# Altium integrated library Silicon Labs Clocks and Oscillators.IntLib: 678 symbols (part 28 of 45)
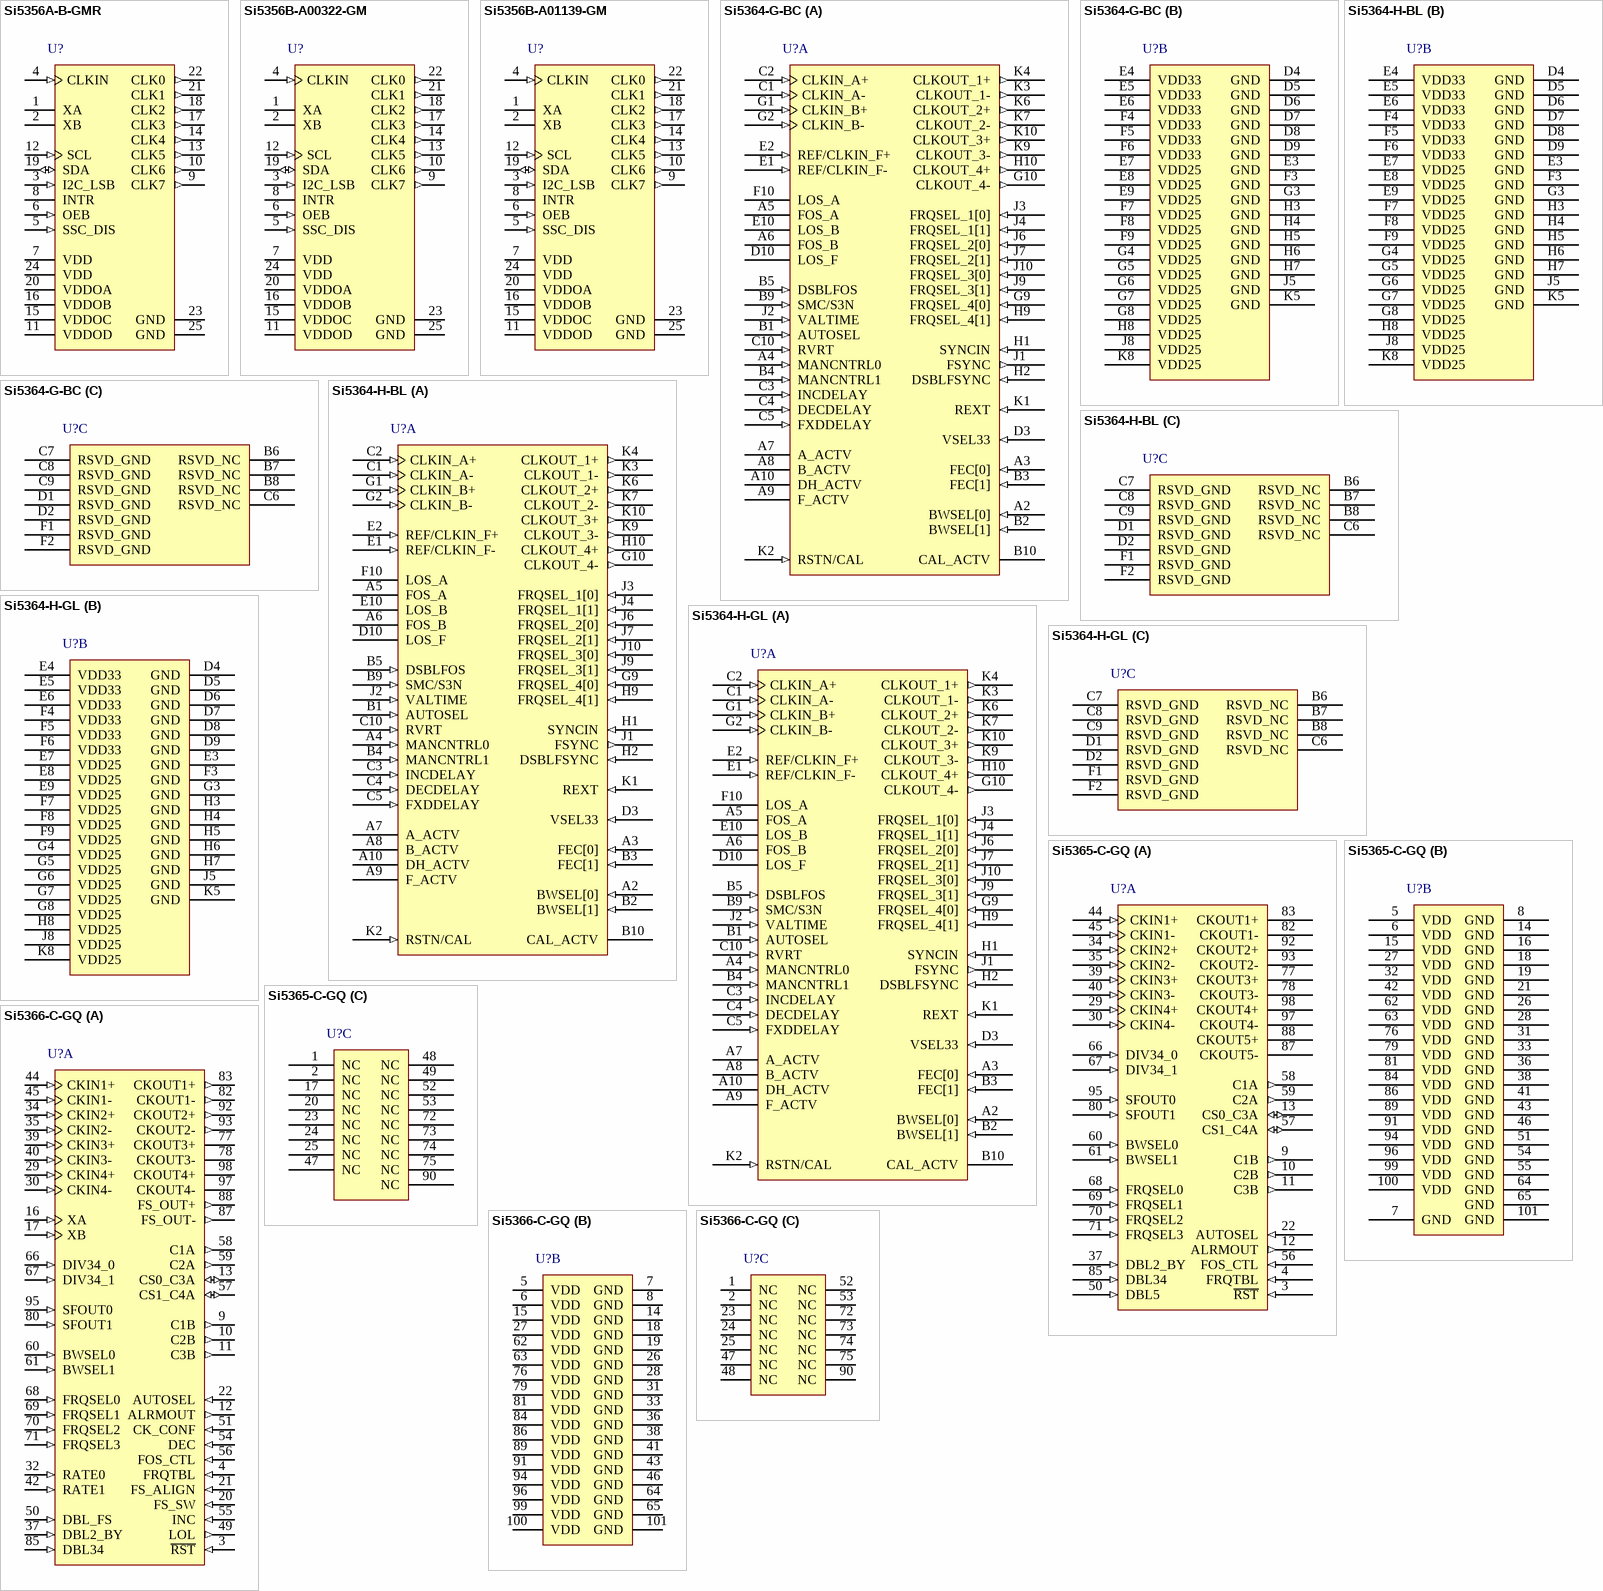
[diagram p71: symbols Si5356A-B-GMR to Si5366-C-GQ]

## Si5365-C-GQ
designator U?
Pin-Programmable Precision Clock Multiplier, 1.8 / 2.5 / 3.3 V, 19.44 to 1050 MHz Output, -40 to 85 degC, 100-pin QFP; Manufacturer: Silicon Labs; PartNumber: Si5365-C-GQ; Output Format: LVPECL; LVDS; CML; LVCMOS; Reference Inputs: 4; VDD: 1.8 V; 2.5 V; 3.3 V; Sub-Family: Clock Generators; DatasheetVersion: Rev. 0.5; PackageReference: TQFP-100; PackageDescription: 100-Pin Thin Quad Flat Package, Body 14 x 14 mm, Pitch 0.5 mm; Supplier 1: Digi-Key; Supplier Part Number 1: SI5365-C-GQ-ND; Supplier 2: Mouser; Supplier Part Number 2: 634-SI5365-C-GQ; Output Frequency (MHz): 19.44 to 1050; Mounting Technology: Surface Mount; Code_JEDEC: MS-026; Code_IPC: J-STD-020C; ComponentLink1Description: Manufacturer URL; ComponentLink1URL: http://www.silabs.com/; ComponentLink2Description: Datasheet; ComponentLink2URL: https://www.silabs.com/Support%20Documents/TechnicalDocs/Si5365.pdf; ComponentLink3Description: Package Specification; ComponentLink3URL: https://www.silabs.com/Support%20Documents/TechnicalDocs/Si5365.pdf
footprint SLAB-TQFP-100-EP_N (QFP, 100-Leads, Body 14x14mm, Pitch 14mm, Thermal Pad 4x4mm, IPC Medium Density)
footprint SLAB-TQFP-100-EP_L (QFP, 100-Leads, Body 14x14mm, Pitch 0.5mm, Thermal Pad 4x4mm, IPC High Density)
footprint SLAB-TQFP-100-EP_M (QFP, 100-Leads, Body 14x14mm, Pitch 0.5mm, Thermal Pad 4x4mm, IPC Low Density)
part A pins: 3 ~{RST} (in) "External Reset.", 4 FRQTBL (in) "Frequency Table Select", 9 C1B (out) "CKIN1 Invalid Indicator", 10 C2B (out) "CKIN2 Invalid Indicator", 11 C3B (out) "CKIN3 Invalid Indicator", 12 ALRMOUT (out) "Alarm Output Indicator", 13 CS0_C3A (io) "Input Clock Select/CKINn Active Clock Indicator", 22 AUTOSEL (in) "Manual/Automatic Clock Selection", 29 CKIN4+ (in) "Clock Input 4.", 30 CKIN4- (in) "Clock Input 4.", 34 CKIN2+ (in) "Clock Input 2.", 35 CKIN2- (in) "Clock Input 2.", 37 DBL2_BY (in) "CKOUT2 Disable/PLL Bypass Mode Control.", 39 CKIN3+ (in) "Clock Input 3.", 40 CKIN3- (in) "Clock Input 3.", 44 CKIN1+ (in) "Clock Input 1.", 45 CKIN1- (in) "Clock Input 1.", 50 DBL5 (in) "CKOUT5 Disable", 56 FOS_CTL (in) "Frequency Offset Control.", 57 CS1_C4A (io) "Input Clock Select/CKINn Active Clock Indicator", 58 C1A (out) "CKIN1 Active Clock Indicator.", 59 C2A (out) "CKIN2 Active Clock Indicator.", 60 BWSEL0 (in) "Bandwidth Select.", 61 BWSEL1 (in) "Bandwidth Select.", 66 DIV34_0 (in) "CKOUT3 and CKOUT4 Divider Control.", 67 DIV34_1 (in) "CKOUT3 and CKOUT4 Divider Control.", 68 FRQSEL0 (in) "Multiplier Select.", 69 FRQSEL1 (in) "Multiplier Select.", 70 FRQSEL2 (in) "Multiplier Select.", 71 FRQSEL3 (in) "Multiplier Select.", 77 CKOUT3+ (hiz) "Clock Output 3.", 78 CKOUT3- (hiz) "Clock Output 3.", 80 SFOUT1 (in) "Signal Format Select.", 82 CKOUT1- (hiz) "Clock Output 1.", 83 CKOUT1+ (hiz) "Clock Output 1.", 85 DBL34 (in) "Output 3 and 4 Disable", 87 CKOUT5- (hiz) "Clock Output 5.", 88 CKOUT5+ (hiz) "Clock Output 5.", 92 CKOUT2+ (hiz) "Clock Output 2.", 93 CKOUT2- (hiz) "Clock Output 2.", 95 SFOUT0 (in) "Signal Format Select.", 97 CKOUT4- (hiz) "Clock Output 4.", 98 CKOUT4+ (hiz) "Clock Output 4."
part B pins: 5 VDD (power), 6 VDD (power), 7 GND (power) "Ground.", 8 GND (power) "Ground.", 14 GND (power) "Ground.", 15 VDD (power), 16 GND (power) "Ground.", 18 GND (power) "Ground.", 19 GND (power) "Ground.", 21 GND (power) "Ground.", 26 GND (power) "Ground.", 27 VDD (power), 28 GND (power) "Ground.", 31 GND (power) "Ground.", 32 VDD (power), 33 GND (power) "Ground.", 36 GND (power) "Ground.", 38 GND (power) "Ground.", 41 GND (power) "Ground.", 42 VDD (power), 43 GND (power) "Ground.", 46 GND (power) "Ground.", 51 GND (power) "Ground.", 54 GND (power) "Ground.", 55 GND (power) "Ground.", 62 VDD (power), 63 VDD (power), 64 GND (power) "Ground.", 65 GND (power) "Ground.", 76 VDD (power), 79 VDD (power), 81 VDD (power), 84 VDD (power), 86 VDD (power), 89 VDD (power), 91 VDD (power), 94 VDD (power), 96 VDD (power), 99 VDD (power), 100 VDD (power), 101 GND (power) "Ground Pad."
part C pins: 1 NC "No Connect", 2 NC "No Connect", 17 NC "No Connect", 20 NC "No Connect", 23 NC "No Connect", 24 NC "No Connect", 25 NC "No Connect", 47 NC "No Connect", 48 NC "No Connect", 49 NC "No Connect", 52 NC "No Connect", 53 NC "No Connect", 72 NC "No Connect", 73 NC "No Connect", 74 NC "No Connect", 75 NC "No Connect", 90 NC "No Connect"

## Si5366-C-GQ
designator U?
Precision Clock Multiplier / Jitter Attenuator, 1.8 / 2.5 / 3.3 V, 19.44 to 1050 MHz Output, -40 to 85 degC, 100-pin QFP; Manufacturer: Silicon Labs; PartNumber: Si5366-C-GQ; Output Format: LVPECL; LVDS; CML; LVCMOS; Reference Inputs: 4; VDD: 1.8 V; 2.5 V; 3.3 V; Sub-Family: Clock Generators; DatasheetVersion: Rev. 1.0; PackageReference: TQFP-100; PackageDescription: 100-Pin Thin Quad Flat Package, Body 14 x 14 mm, Pitch 0.5 mm; Supplier 1: Digi-Key; Supplier Part Number 1: SI5366-C-GQ-ND; Supplier 2: Mouser; Supplier Part Number 2: 634-SI5366-C-GQ; Output Frequency (MHz): 19.44 to 1050; Mounting Technology: Surface Mount; Code_JEDEC: MS-026; Code_IPC: J-STD-020C; ComponentLink1Description: Manufacturer URL; ComponentLink1URL: http://www.silabs.com/; ComponentLink2Description: Datasheet; ComponentLink2URL: http://www.silabs.com/Support%20Documents/TechnicalDocs/Si5366.pdf; ComponentLink3Description: Package Specification; ComponentLink3URL: https://www.silabs.com/Support%20Documents/TechnicalDocs/Si5365.pdf
footprint SLAB-TQFP-100-EP_N (QFP, 100-Leads, Body 14x14mm, Pitch 14mm, Thermal Pad 4x4mm, IPC Medium Density)
footprint SLAB-TQFP-100-EP_L (QFP, 100-Leads, Body 14x14mm, Pitch 0.5mm, Thermal Pad 4x4mm, IPC High Density)
footprint SLAB-TQFP-100-EP_M (QFP, 100-Leads, Body 14x14mm, Pitch 0.5mm, Thermal Pad 4x4mm, IPC Low Density)
part A pins: 3 ~{RST} (in) "External Reset.", 4 FRQTBL (in) "Frequency Table Select.", 9 C1B (out) "CKIN1 Invalid Indicator", 10 C2B (out) "CKIN2 Invalid Indicator", 11 C3B (out) "CKIN3 Invalid Indicator", 12 ALRMOUT (out) "Alarm Output Indicator", 13 CS0_C3A (io) "Input Clock Select/CKINn Active Clock Indicator", 16 XA (in) "External Crystal or Reference Clock", 17 XB (in) "External Crystal or Reference Clock", 20 FS_SW (in) "FSYNC Inputs to Clock Selection Enable", 21 FS_ALIGN (in) "FSYNC Alignment Control.", 22 AUTOSEL (in) "Manual/Automatic Clock Selection", 29 CKIN4+ (in) "Clock Input 4.", 30 CKIN4- (in) "Clock Input 4.", 32 RATE0 (in) "External Crystal or Reference Clock Rate.", 34 CKIN2+ (in) "Clock Input 2.", 35 CKIN2- (in) "Clock Input 2.", 37 DBL2_BY (in) "CKOUT2 Disable/PLL Bypass Mode Control", 39 CKIN3+ (in) "Clock Input 3.", 40 CKIN3- (in) "Clock Input 3.", 42 RATE1 (in) "External Crystal or Reference Clock Rate.", 44 CKIN1+ (in) "Clock Input 1.", 45 CKIN1- (in) "Clock Input 1.", 49 LOL (out) "PLL Loss of Lock Indicator.", 50 DBL_FS (in) "FS_OUT Disable", 51 CK_CONF (in) "Input Clock Configuration Control", 54 DEC (in) "Coarse Skew Decrement.", 55 INC (in) "Coarse Skew Increment.", 56 FOS_CTL (in) "Frequency Offset Control", 57 CS1_C4A (io) "Input Clock Select/CKINn Active Clock Indicator", 58 C1A (out) "CKIN1 Active Clock Indicator", 59 C2A (out) "CKIN2 Active Clock Indicator.", 60 BWSEL0 (in) "Bandwidth Select.", 61 BWSEL1 (in) "Bandwidth Select.", 66 DIV34_0 (in) "CKOUT3 and CKOUT4 Divider Control.", 67 DIV34_1 (in) "CKOUT3 and CKOUT4 Divider Control.", 68 FRQSEL0 (in) "Multiplier Select", 69 FRQSEL1 (in) "Multiplier Select", 70 FRQSEL2 (in) "Multiplier Select", 71 FRQSEL3 (in) "Multiplier Select", 77 CKOUT3+ (hiz) "Clock Output 3.", 78 CKOUT3- (hiz) "Clock Output 3.", 80 SFOUT1 (in) "Signal Format Select", 82 CKOUT1- (out) "Clock Output 1.", 83 CKOUT1+ (out) "Clock Output 1.", 85 DBL34 (in) "Output 3 and 4 Disable", 87 FS_OUT- (out) "Frame Sync Output.", 88 FS_OUT+ (out) "Frame Sync Output.", 92 CKOUT2+ (out) "Clock Output 2.", 93 CKOUT2- (out) "Clock Output 2.", 95 SFOUT0 (in) "Signal Format Select", 97 CKOUT4- (hiz) "Clock Output 4.", 98 CKOUT4+ (hiz) "Clock Output 4."
part B pins: 5 VDD (power) "VDD.", 6 VDD (power) "VDD.", 7 GND (power) "Ground.", 8 GND (power) "Ground.", 14 GND (power) "Ground.", 15 VDD (power) "VDD.", 18 GND (power) "Ground.", 19 GND (power) "Ground.", 26 GND (power) "Ground.", 27 VDD (power) "VDD.", 28 GND (power) "Ground.", 31 GND (power) "Ground.", 33 GND (power) "Ground.", 36 GND (power) "Ground.", 38 GND (power) "Ground.", 41 GND (power) "Ground.", 43 GND (power) "Ground.", 46 GND (power) "Ground.", 62 VDD (power) "VDD.", 63 VDD (power) "VDD.", 64 GND (power) "Ground.", 65 GND (power) "Ground.", 76 VDD (power) "VDD.", 79 VDD (power) "VDD.", 81 VDD (power) "VDD.", 84 VDD (power) "VDD.", 86 VDD (power) "VDD.", 89 VDD (power) "VDD.", 91 VDD (power) "VDD.", 94 VDD (power) "VDD.", 96 VDD (power) "VDD.", 99 VDD (power) "VDD.", 100 VDD (power) "VDD.", 101 GND (power) "Ground Pad"
part C pins: 1 NC "No Connect.", 2 NC "No Connect.", 23 NC "No Connect.", 24 NC "No Connect.", 25 NC "No Connect.", 47 NC "No Connect.", 48 NC "No Connect.", 52 NC "No Connect.", 53 NC "No Connect.", 72 NC "No Connect.", 73 NC "No Connect.", 74 NC "No Connect.", 75 NC "No Connect.", 90 NC "No Connect."

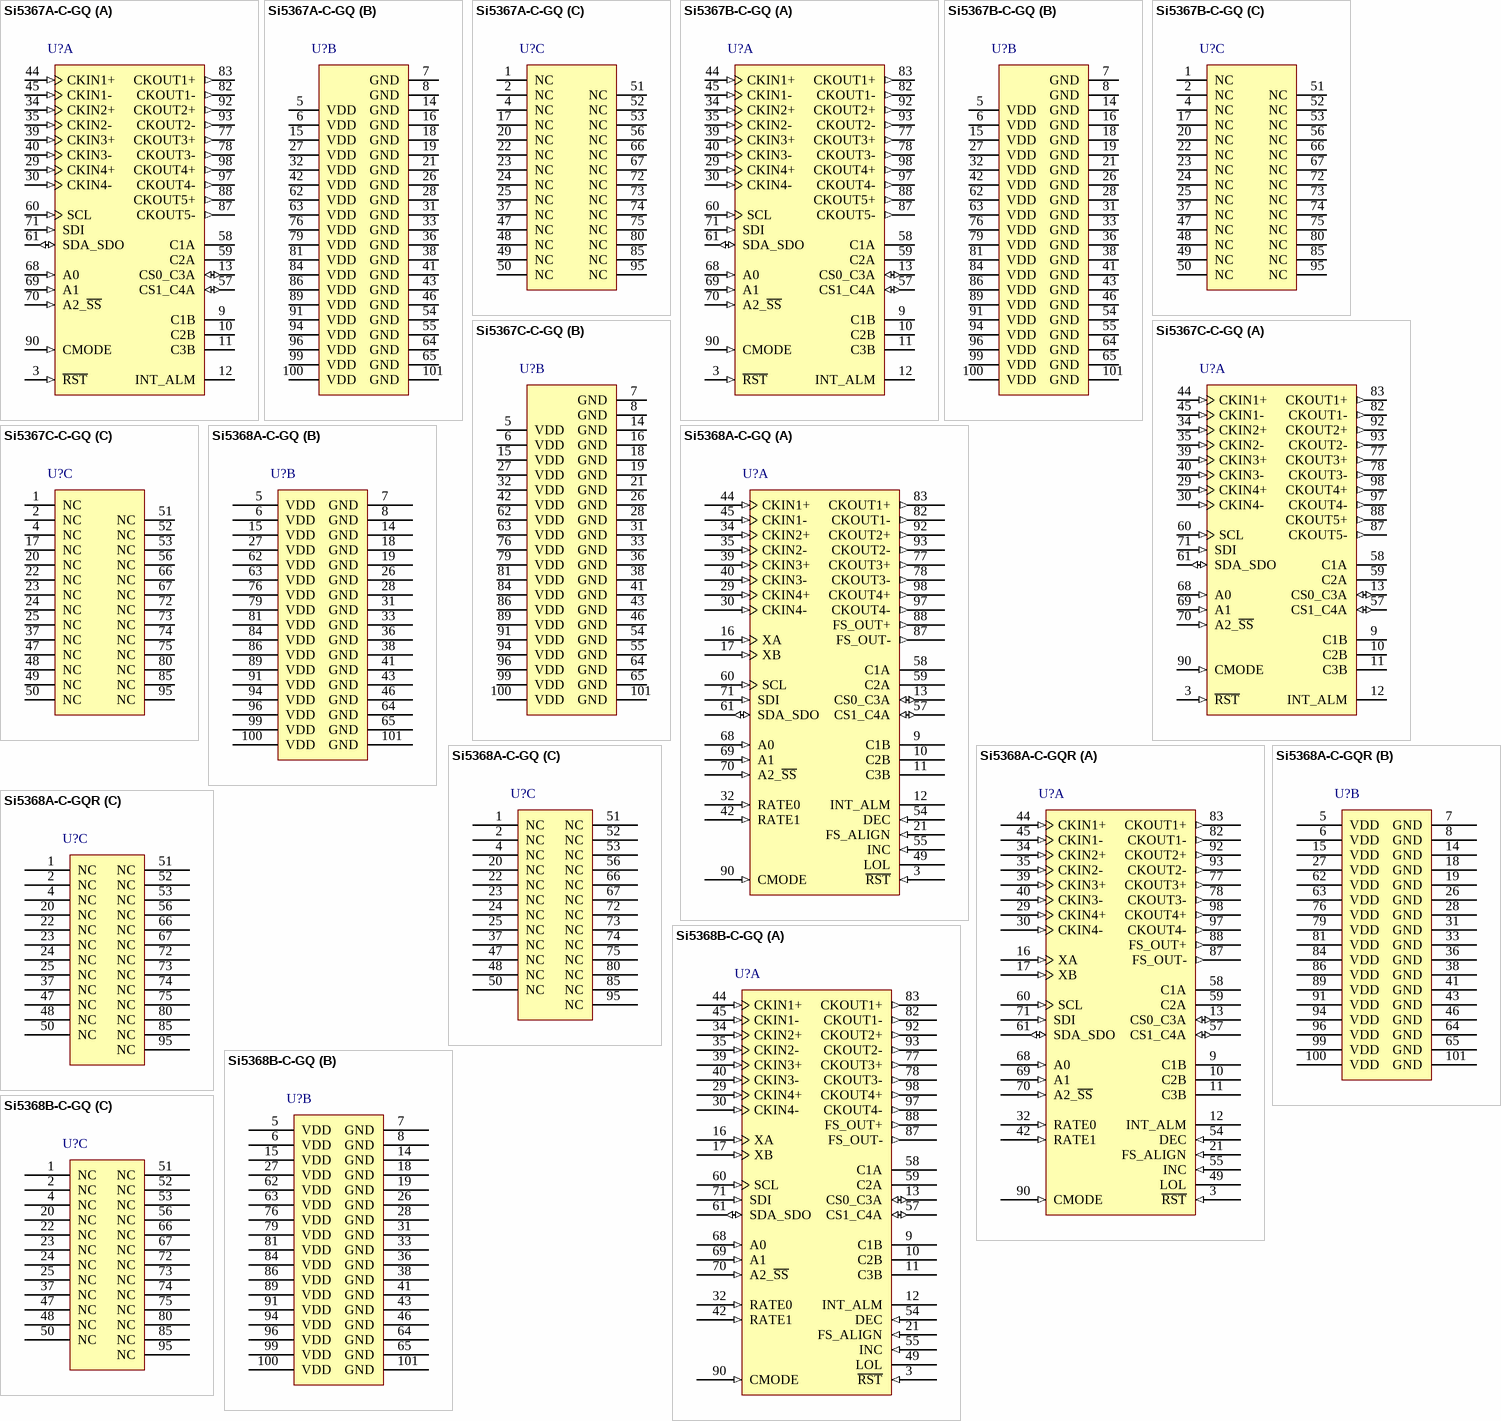
[diagram p28: symbols Si5367A-C-GQ to Si5368B-C-GQ]

## Si5367A-C-GQ
designator U?
uP-Programmable Precision Clock Multiplier, 1.8 / 2.5 / 3.3 V, 1400 MHz Max Output, -40 to 85 degC, 100-pin QFP; Manufacturer: Silicon Labs; PartNumber: Si5367A-C-GQ; Output Format: LVPECL; LVDS; CML; LVCMOS; Output Frequency (MHz): 0.002 to 945; 970 to 1134; 1213 to 1400; Reference Inputs: 4; VDD: 1.8 V; 2.5 V; 3.3 V; Sub-Family: Clock Generators; DatasheetVersion: Rev. 0.5; PackageReference: TQFP-100; PackageDescription: 100-Pin Thin Quad Flat Package, Body 14 x 14 mm, Pitch 0.5 mm; Supplier 1: Digi-Key; Supplier Part Number 1: SI5367A-C-GQ-ND; Supplier 2: Mouser; Supplier Part Number 2: 634-SI5367A-C-GQ; Mounting Technology: Surface Mount; Code_JEDEC: MS-026; Code_IPC: J-STD-020C; ComponentLink1Description: Manufacturer URL; ComponentLink1URL: http://www.silabs.com/; ComponentLink2Description: Datasheet; ComponentLink2URL: http://www.silabs.com/Support%20Documents/TechnicalDocs/Si5367.pdf; ComponentLink3Description: Package Specification; ComponentLink3URL: https://www.silabs.com/Support%20Documents/TechnicalDocs/Si5365.pdf
footprint SLAB-TQFP-100-EP_N (QFP, 100-Leads, Body 14x14mm, Pitch 14mm, Thermal Pad 4x4mm, IPC Medium Density)
footprint SLAB-TQFP-100-EP_L (QFP, 100-Leads, Body 14x14mm, Pitch 0.5mm, Thermal Pad 4x4mm, IPC High Density)
footprint SLAB-TQFP-100-EP_M (QFP, 100-Leads, Body 14x14mm, Pitch 0.5mm, Thermal Pad 4x4mm, IPC Low Density)
part A pins: 3 ~{RST} (in) "External Reset", 9 C1B (hiz) "CKIN1 Invalid Indicator", 10 C2B (hiz) "CKIN2 Invalid Indicator.", 11 C3B (hiz) "CKIN3 Invalid Indicator.", 12 INT_ALM (hiz) "Interrupt/Alarm Output Indicator", 13 CS0_C3A (io) "Input Clock Select/CKINn Active Clock Indicator", 29 CKIN4+ (in) "Clock Input 4.", 30 CKIN4- (in) "Clock Input 4.", 34 CKIN2+ (in) "Clock Input 2.", 35 CKIN2- (in) "Clock Input 2.", 39 CKIN3+ (in) "Clock Input 3.", 40 CKIN3- (in) "Clock Input 3.", 44 CKIN1+ (in) "Clock Input 1.", 45 CKIN1- (in) "Clock Input 1.", 57 CS1_C4A (io) "Input Clock Select/CKINn Active Clock Indicator", 58 C1A (hiz) "CKIN1 Active Clock Indicator", 59 C2A (hiz) "CKIN2 Active Clock Indicator.", 60 SCL (in) "Serial Clock.", 61 SDA_SDO (io) "Serial Data.", 68 A0 (in) "Serial Port Address.", 69 A1 (in) "Serial Port Address.", 70 A2_~{SS} (in) "Serial Port Address/S\l\a\v\e\ \S\e\l\e\c\t\", 71 SDI (in) "Serial Data In.", 77 CKOUT3+ (out) "Clock Output 3.", 78 CKOUT3- (out) "Clock Output 3.", 82 CKOUT1- (out) "Clock Output 1.", 83 CKOUT1+ (out) "Clock Output 1.", 87 CKOUT5- (out) "Clock Output 5.", 88 CKOUT5+ (out) "Clock Output 5.", 90 CMODE (in) "Control Mode", 92 CKOUT2+ (out) "Clock Output 2.", 93 CKOUT2- (out) "Clock Output 2.", 97 CKOUT4- (out) "Clock Output 4.", 98 CKOUT4+ (out) "Clock Output 4."
part B pins: 5 VDD (power), 6 VDD (power), 7 GND (power) "Ground.", 8 GND (power) "Ground.", 14 GND (power) "Ground.", 15 VDD (power), 16 GND (power) "Ground.", 18 GND (power) "Ground.", 19 GND (power) "Ground.", 21 GND (power) "Ground.", 26 GND (power) "Ground.", 27 VDD (power), 28 GND (power) "Ground.", 31 GND (power) "Ground.", 32 VDD (power), 33 GND (power) "Ground.", 36 GND (power) "Ground.", 38 GND (power) "Ground.", 41 GND (power) "Ground.", 42 VDD (power), 43 GND (power) "Ground.", 46 GND (power) "Ground.", 54 GND (power) "Ground.", 55 GND (power) "Ground.", 62 VDD (power), 63 VDD (power), 64 GND (power) "Ground.", 65 GND (power) "Ground.", 76 VDD (power), 79 VDD (power) "VDD.", 81 VDD (power) "VDD.", 84 VDD (power) "VDD.", 86 VDD (power), 89 VDD (power), 91 VDD (power), 94 VDD (power) "VDD.", 96 VDD (power) "VDD.", 99 VDD (power) "VDD.", 100 VDD (power) "VDD.", 101 GND (power) "Ground Pad"
part C pins: 1 NC "No Connect", 2 NC "No Connect", 4 NC "No Connect", 17 NC "No Connect", 20 NC "No Connect", 22 NC "No Connect.", 23 NC "No Connect.", 24 NC "No Connect.", 25 NC "No Connect.", 37 NC "No Connect.", 47 NC "No Connect.", 48 NC "No Connect.", 49 NC "No Connect.", 50 NC "No Connect.", 51 NC "No Connect.", 52 NC "No Connect.", 53 NC "No Connect.", 56 NC "No Connect.", 66 NC "No Connect.", 67 NC "No Connect.", 72 NC "No Connect.", 73 NC "No Connect.", 74 NC "No Connect.", 75 NC "No Connect.", 80 NC "No Connect.", 85 NC "No Connect.", 95 NC "No Connect."

## Si5367B-C-GQ
designator U?
uP-Programmable Precision Clock Multiplier, 1.8 / 2.5 / 3.3 V, 0.002 to 808 MHz Output, -40 to 85 degC, 100-pin QFP; Manufacturer: Silicon Labs; PartNumber: Si5367B-C-GQ; Output Format: LVPECL; LVDS; CML; LVCMOS; Reference Inputs: 4; VDD: 1.8 V; 2.5 V; 3.3 V; Sub-Family: Clock Generators; DatasheetVersion: Rev. 0.5; PackageReference: TQFP-100; PackageDescription: 100-Pin Thin Quad Flat Package, Body 14 x 14 mm, Pitch 0.5 mm; Supplier 1: Digi-Key; Supplier Part Number 1: SI5367B-C-GQ-ND; Supplier 2: Mouser; Supplier Part Number 2: 634-SI5367B-C-GQ; Output Frequency (MHz): 0.002 to 808; Mounting Technology: Surface Mount; Code_JEDEC: MS-026; Code_IPC: J-STD-020C; ComponentLink1Description: Manufacturer URL; ComponentLink1URL: http://www.silabs.com/; ComponentLink2Description: Datasheet; ComponentLink2URL: http://www.silabs.com/Support%20Documents/TechnicalDocs/Si5367.pdf; ComponentLink3Description: Package Specification; ComponentLink3URL: https://www.silabs.com/Support%20Documents/TechnicalDocs/Si5365.pdf
footprint SLAB-TQFP-100-EP_N (QFP, 100-Leads, Body 14x14mm, Pitch 14mm, Thermal Pad 4x4mm, IPC Medium Density)
footprint SLAB-TQFP-100-EP_L (QFP, 100-Leads, Body 14x14mm, Pitch 0.5mm, Thermal Pad 4x4mm, IPC High Density)
footprint SLAB-TQFP-100-EP_M (QFP, 100-Leads, Body 14x14mm, Pitch 0.5mm, Thermal Pad 4x4mm, IPC Low Density)
part A pins: 3 ~{RST} (in) "External Reset", 9 C1B (hiz) "CKIN1 Invalid Indicator", 10 C2B (hiz) "CKIN2 Invalid Indicator.", 11 C3B (hiz) "CKIN3 Invalid Indicator.", 12 INT_ALM (hiz) "Interrupt/Alarm Output Indicator", 13 CS0_C3A (io) "Input Clock Select/CKINn Active Clock Indicator", 29 CKIN4+ (in) "Clock Input 4.", 30 CKIN4- (in) "Clock Input 4.", 34 CKIN2+ (in) "Clock Input 2.", 35 CKIN2- (in) "Clock Input 2.", 39 CKIN3+ (in) "Clock Input 3.", 40 CKIN3- (in) "Clock Input 3.", 44 CKIN1+ (in) "Clock Input 1.", 45 CKIN1- (in) "Clock Input 1.", 57 CS1_C4A (io) "Input Clock Select/CKINn Active Clock Indicator", 58 C1A (hiz) "CKIN1 Active Clock Indicator", 59 C2A (hiz) "CKIN2 Active Clock Indicator.", 60 SCL (in) "Serial Clock.", 61 SDA_SDO (io) "Serial Data.", 68 A0 (in) "Serial Port Address.", 69 A1 (in) "Serial Port Address.", 70 A2_~{SS} (in) "Serial Port Address/S\l\a\v\e\ \S\e\l\e\c\t\", 71 SDI (in) "Serial Data In.", 77 CKOUT3+ (out) "Clock Output 3.", 78 CKOUT3- (out) "Clock Output 3.", 82 CKOUT1- (out) "Clock Output 1.", 83 CKOUT1+ (out) "Clock Output 1.", 87 CKOUT5- (out) "Clock Output 5.", 88 CKOUT5+ (out) "Clock Output 5.", 90 CMODE (in) "Control Mode", 92 CKOUT2+ (out) "Clock Output 2.", 93 CKOUT2- (out) "Clock Output 2.", 97 CKOUT4- (out) "Clock Output 4.", 98 CKOUT4+ (out) "Clock Output 4."
part B pins: 5 VDD (power), 6 VDD (power), 7 GND (power) "Ground.", 8 GND (power) "Ground.", 14 GND (power) "Ground.", 15 VDD (power), 16 GND (power) "Ground.", 18 GND (power) "Ground.", 19 GND (power) "Ground.", 21 GND (power) "Ground.", 26 GND (power) "Ground.", 27 VDD (power), 28 GND (power) "Ground.", 31 GND (power) "Ground.", 32 VDD (power), 33 GND (power) "Ground.", 36 GND (power) "Ground.", 38 GND (power) "Ground.", 41 GND (power) "Ground.", 42 VDD (power), 43 GND (power) "Ground.", 46 GND (power) "Ground.", 54 GND (power) "Ground.", 55 GND (power) "Ground.", 62 VDD (power), 63 VDD (power), 64 GND (power) "Ground.", 65 GND (power) "Ground.", 76 VDD (power), 79 VDD (power) "VDD.", 81 VDD (power) "VDD.", 84 VDD (power) "VDD.", 86 VDD (power), 89 VDD (power), 91 VDD (power), 94 VDD (power) "VDD.", 96 VDD (power) "VDD.", 99 VDD (power) "VDD.", 100 VDD (power) "VDD.", 101 GND (power) "Ground Pad"
part C pins: 1 NC "No Connect", 2 NC "No Connect", 4 NC "No Connect", 17 NC "No Connect", 20 NC "No Connect", 22 NC "No Connect.", 23 NC "No Connect.", 24 NC "No Connect.", 25 NC "No Connect.", 37 NC "No Connect.", 47 NC "No Connect.", 48 NC "No Connect.", 49 NC "No Connect.", 50 NC "No Connect.", 51 NC "No Connect.", 52 NC "No Connect.", 53 NC "No Connect.", 56 NC "No Connect.", 66 NC "No Connect.", 67 NC "No Connect.", 72 NC "No Connect.", 73 NC "No Connect.", 74 NC "No Connect.", 75 NC "No Connect.", 80 NC "No Connect.", 85 NC "No Connect.", 95 NC "No Connect."

## Si5367C-C-GQ
designator U?
uP-Programmable Precision Clock Multiplier, 1.8 / 2.5 / 3.3 V, 0.002 to 346 MHz Output, -40 to 85 degC, 100-pin QFP; Manufacturer: Silicon Labs; PartNumber: Si5367C-C-GQ; Output Format: LVPECL; LVDS; CML; LVCMOS; Reference Inputs: 4; VDD: 1.8 V; 2.5 V; 3.3 V; Sub-Family: Clock Generators; DatasheetVersion: Rev. 0.5; PackageReference: TQFP-100; PackageDescription: 100-Pin Thin Quad Flat Package, Body 14 x 14 mm, Pitch 0.5 mm; Supplier 1: Digi-Key; Supplier Part Number 1: SI5367C-C-GQ-ND; Supplier 2: Mouser; Supplier Part Number 2: 634-SI5367C-C-GQ; Output Frequency (MHz): 0.002 to 346; Mounting Technology: Surface Mount; Code_JEDEC: MS-026; Code_IPC: J-STD-020C; ComponentLink1Description: Manufacturer URL; ComponentLink1URL: http://www.silabs.com/; ComponentLink2Description: Datasheet; ComponentLink2URL: http://www.silabs.com/Support%20Documents/TechnicalDocs/Si5367.pdf; ComponentLink3Description: Package Specification; ComponentLink3URL: https://www.silabs.com/Support%20Documents/TechnicalDocs/Si5365.pdf
footprint SLAB-TQFP-100-EP_N (QFP, 100-Leads, Body 14x14mm, Pitch 14mm, Thermal Pad 4x4mm, IPC Medium Density)
footprint SLAB-TQFP-100-EP_L (QFP, 100-Leads, Body 14x14mm, Pitch 0.5mm, Thermal Pad 4x4mm, IPC High Density)
footprint SLAB-TQFP-100-EP_M (QFP, 100-Leads, Body 14x14mm, Pitch 0.5mm, Thermal Pad 4x4mm, IPC Low Density)
part A pins: 3 ~{RST} (in) "External Reset", 9 C1B (hiz) "CKIN1 Invalid Indicator", 10 C2B (hiz) "CKIN2 Invalid Indicator.", 11 C3B (hiz) "CKIN3 Invalid Indicator.", 12 INT_ALM (hiz) "Interrupt/Alarm Output Indicator", 13 CS0_C3A (io) "Input Clock Select/CKINn Active Clock Indicator", 29 CKIN4+ (in) "Clock Input 4.", 30 CKIN4- (in) "Clock Input 4.", 34 CKIN2+ (in) "Clock Input 2.", 35 CKIN2- (in) "Clock Input 2.", 39 CKIN3+ (in) "Clock Input 3.", 40 CKIN3- (in) "Clock Input 3.", 44 CKIN1+ (in) "Clock Input 1.", 45 CKIN1- (in) "Clock Input 1.", 57 CS1_C4A (io) "Input Clock Select/CKINn Active Clock Indicator", 58 C1A (hiz) "CKIN1 Active Clock Indicator", 59 C2A (hiz) "CKIN2 Active Clock Indicator.", 60 SCL (in) "Serial Clock.", 61 SDA_SDO (io) "Serial Data.", 68 A0 (in) "Serial Port Address.", 69 A1 (in) "Serial Port Address.", 70 A2_~{SS} (in) "Serial Port Address/S\l\a\v\e\ \S\e\l\e\c\t\", 71 SDI (in) "Serial Data In.", 77 CKOUT3+ (out) "Clock Output 3.", 78 CKOUT3- (out) "Clock Output 3.", 82 CKOUT1- (out) "Clock Output 1.", 83 CKOUT1+ (out) "Clock Output 1.", 87 CKOUT5- (out) "Clock Output 5.", 88 CKOUT5+ (out) "Clock Output 5.", 90 CMODE (in) "Control Mode", 92 CKOUT2+ (out) "Clock Output 2.", 93 CKOUT2- (out) "Clock Output 2.", 97 CKOUT4- (out) "Clock Output 4.", 98 CKOUT4+ (out) "Clock Output 4."
part B pins: 5 VDD (power), 6 VDD (power), 7 GND (power) "Ground.", 8 GND (power) "Ground.", 14 GND (power) "Ground.", 15 VDD (power), 16 GND (power) "Ground.", 18 GND (power) "Ground.", 19 GND (power) "Ground.", 21 GND (power) "Ground.", 26 GND (power) "Ground.", 27 VDD (power), 28 GND (power) "Ground.", 31 GND (power) "Ground.", 32 VDD (power), 33 GND (power) "Ground.", 36 GND (power) "Ground.", 38 GND (power) "Ground.", 41 GND (power) "Ground.", 42 VDD (power), 43 GND (power) "Ground.", 46 GND (power) "Ground.", 54 GND (power) "Ground.", 55 GND (power) "Ground.", 62 VDD (power), 63 VDD (power), 64 GND (power) "Ground.", 65 GND (power) "Ground.", 76 VDD (power), 79 VDD (power) "VDD.", 81 VDD (power) "VDD.", 84 VDD (power) "VDD.", 86 VDD (power), 89 VDD (power), 91 VDD (power), 94 VDD (power) "VDD.", 96 VDD (power) "VDD.", 99 VDD (power) "VDD.", 100 VDD (power) "VDD.", 101 GND (power) "Ground Pad"
part C pins: 1 NC "No Connect", 2 NC "No Connect", 4 NC "No Connect", 17 NC "No Connect", 20 NC "No Connect", 22 NC "No Connect.", 23 NC "No Connect.", 24 NC "No Connect.", 25 NC "No Connect.", 37 NC "No Connect.", 47 NC "No Connect.", 48 NC "No Connect.", 49 NC "No Connect.", 50 NC "No Connect.", 51 NC "No Connect.", 52 NC "No Connect.", 53 NC "No Connect.", 56 NC "No Connect.", 66 NC "No Connect.", 67 NC "No Connect.", 72 NC "No Connect.", 73 NC "No Connect.", 74 NC "No Connect.", 75 NC "No Connect.", 80 NC "No Connect.", 85 NC "No Connect.", 95 NC "No Connect."

## Si5368A-C-GQ
designator U?
Any-Frequency Precision Clock Multiplier / Jitter Attenuator, 1.8 / 2.5 / 3.3 V, 1417 MHz Max Output, -40 to 85 degC, 100-pin QFP; Manufacturer: Silicon Labs; PartNumber: Si5368A-C-GQ; Output Format: LVPECL; LVDS; CML; LVCMOS; Output Frequency (MHz): 1213 to 1417; 0.002 to 945; 970 to 1134; Reference Inputs: 4; VDD: 1.8 V; 2.5 V; 3.3 V; Sub-Family: Clock Generators; DatasheetVersion: Rev. 1.0; PackageReference: TQFP-100; PackageDescription: 100-Pin Thin Quad Flat Package, Body 14 x 14 mm, Pitch 0.5 mm; Supplier 1: Digi-Key; Supplier Part Number 1: SI5368A-C-GQ-ND; Supplier 2: Mouser; Supplier Part Number 2: 634-SI5368A-C-GQ; Mounting Technology: Surface Mount; Code_JEDEC: MS-026; Code_IPC: J-STD-020C; ComponentLink1Description: Manufacturer URL; ComponentLink1URL: http://www.silabs.com/; ComponentLink2Description: Datasheet; ComponentLink2URL: http://www.silabs.com/Support%20Documents/TechnicalDocs/Si5368.pdf; ComponentLink3Description: Package Specification; ComponentLink3URL: https://www.silabs.com/Support%20Documents/TechnicalDocs/Si5365.pdf
footprint SLAB-TQFP-100-EP_N (QFP, 100-Leads, Body 14x14mm, Pitch 14mm, Thermal Pad 4x4mm, IPC Medium Density)
footprint SLAB-TQFP-100-EP_L (QFP, 100-Leads, Body 14x14mm, Pitch 0.5mm, Thermal Pad 4x4mm, IPC High Density)
footprint SLAB-TQFP-100-EP_M (QFP, 100-Leads, Body 14x14mm, Pitch 0.5mm, Thermal Pad 4x4mm, IPC Low Density)
part A pins: 3 ~{RST} (in) "External Reset", 9 C1B (hiz) "CKIN1 Invalid Indicator", 10 C2B (hiz) "CKIN2 Invalid Indicator.", 11 C3B (hiz) "CKIN3 Invalid Indicator.", 12 INT_ALM (hiz) "Interrupt/Alarm Output Indicator", 13 CS0_C3A (io) "Input Clock Select/CKINn Active Clock Indicator", 16 XA (in) "External Crystal or Reference Clock", 17 XB (in) "External Crystal or Reference Clock", 21 FS_ALIGN (in) "FSYNC Alignment Control", 29 CKIN4+ (in) "Clock Input 4.", 30 CKIN4- (in) "Clock Input 4.", 32 RATE0 (in) "External Crystal or Reference Clock Rate.", 34 CKIN2+ (in) "Clock Input 2.", 35 CKIN2- (in) "Clock Input 2.", 39 CKIN3+ (in) "Clock Input 3.", 40 CKIN3- (in) "Clock Input 3.", 42 RATE1 (in) "External Crystal or Reference Clock Rate.", 44 CKIN1+ (in) "Clock Input 1.", 45 CKIN1- (in) "Clock Input 1.", 49 LOL (hiz) "PLL Loss of Lock Indicator.", 54 DEC (in) "Coarse Skew Decrement.", 55 INC (in) "Coarse Skew Increment.", 57 CS1_C4A (io) "Input Clock Select/CKINn Active Clock Indicator", 58 C1A (hiz) "CKIN1 Active Clock Indicator", 59 C2A (hiz) "CKIN2 Active Clock Indicator.", 60 SCL (in) "Serial Clock.", 61 SDA_SDO (io) "Serial Data.", 68 A0 (in) "Serial Port Address.", 69 A1 (in) "Serial Port Address.", 70 A2_~{SS} (in) "Serial Port Address/S\l\a\v\e\ \S\e\l\e\c\t\", 71 SDI (in) "Serial Data In.", 77 CKOUT3+ (out) "Clock Output 3.", 78 CKOUT3- (out) "Clock Output 3.", 82 CKOUT1- (out) "Clock Output 1.", 83 CKOUT1+ (out) "Clock Output 1.", 87 FS_OUT- (out) "Frame Sync Output.", 88 FS_OUT+ (out) "Frame Sync Output.", 90 CMODE (in) "Control Mode", 92 CKOUT2+ (out) "Clock Output 2.", 93 CKOUT2- (out) "Clock Output 2.", 97 CKOUT4- (out) "Clock Output 4.", 98 CKOUT4+ (out) "Clock Output 4."
part B pins: 5 VDD (power), 6 VDD (power), 7 GND (power) "Ground.", 8 GND (power) "Ground.", 14 GND (power) "Ground.", 15 VDD (power), 18 GND (power) "Ground.", 19 GND (power) "Ground.", 26 GND (power) "Ground.", 27 VDD (power), 28 GND (power) "Ground.", 31 GND (power) "Ground.", 33 GND (power) "Ground.", 36 GND (power) "Ground.", 38 GND (power) "Ground.", 41 GND (power) "Ground.", 43 GND (power) "Ground.", 46 GND (power) "Ground.", 62 VDD (power), 63 VDD (power), 64 GND (power) "Ground.", 65 GND (power) "Ground.", 76 VDD (power), 79 VDD (power) "VDD.", 81 VDD (power) "VDD.", 84 VDD (power) "VDD.", 86 VDD (power), 89 VDD (power) "VDD.", 91 VDD (power), 94 VDD (power) "VDD.", 96 VDD (power) "VDD.", 99 VDD (power) "VDD.", 100 VDD (power) "VDD.", 101 GND (power) "Ground Pad"
part C pins: 1 NC "No Connect", 2 NC "No Connect", 4 NC "No Connect", 20 NC "No Connect", 22 NC "No Connect.", 23 NC "No Connect.", 24 NC "No Connect.", 25 NC "No Connect.", 37 NC "No Connect.", 47 NC "No Connect.", 48 NC "No Connect.", 50 NC "No Connect.", 51 NC "No Connect.", 52 NC "No Connect.", 53 NC "No Connect.", 56 NC "No Connect.", 66 NC "No Connect.", 67 NC "No Connect.", 72 NC "No Connect.", 73 NC "No Connect.", 74 NC "No Connect.", 75 NC "No Connect.", 80 NC "No Connect.", 85 NC "No Connect.", 95 NC "No Connect."

## Si5368A-C-GQR
designator U?
Any-Frequency Precision Clock Multiplier / Jitter Attenuator, 1.8 / 2.5 / 3.3 V, 1417 MHz Max Output, -40 to 85 degC, 100-pin QFP, Tape and Reel; Manufacturer: Silicon Labs; PartNumber: Si5368A-C-GQR; Output Format: LVPECL; LVDS; CML; LVCMOS; Output Frequency (MHz): 1213 to 1417; 0.002 to 945; 970 to 1134; Phase Jitter (RMS): 0.3 ps; Reference Inputs: 4; VDD: 1.8 V; 2.5 V; 3.3 V; Sub-Family: Clock Generators; DatasheetVersion: Rev. 1.0; PackageReference: TQFP-100; PackageDescription: 100-Pin Thin Quad Flat Package, Body 14 x 14 mm, Pitch 0.5 mm; Supplier 1: Digi-Key; Supplier Part Number 1: SI5368A-C-GQR-ND; Supplier 2: Mouser; Supplier Part Number 2: 634-SI5368A-C-GQR; Packing: Tape and Reel; Mounting Technology: Surface Mount; Code_JEDEC: MS-026; Code_IPC: J-STD-020C; ComponentLink1Description: Manufacturer URL; ComponentLink1URL: http://www.silabs.com/; ComponentLink2Description: Datasheet; ComponentLink2URL: http://www.silabs.com/Support%20Documents/TechnicalDocs/Si5368.pdf; ComponentLink3Description: Package Specification; ComponentLink3URL: https://www.silabs.com/Support%20Documents/TechnicalDocs/Si5365.pdf
footprint SLAB-TQFP-100-EP_N (QFP, 100-Leads, Body 14x14mm, Pitch 14mm, Thermal Pad 4x4mm, IPC Medium Density)
footprint SLAB-TQFP-100-EP_L (QFP, 100-Leads, Body 14x14mm, Pitch 0.5mm, Thermal Pad 4x4mm, IPC High Density)
footprint SLAB-TQFP-100-EP_M (QFP, 100-Leads, Body 14x14mm, Pitch 0.5mm, Thermal Pad 4x4mm, IPC Low Density)
part A pins: 3 ~{RST} (in) "External Reset", 9 C1B (hiz) "CKIN1 Invalid Indicator", 10 C2B (hiz) "CKIN2 Invalid Indicator.", 11 C3B (hiz) "CKIN3 Invalid Indicator.", 12 INT_ALM (hiz) "Interrupt/Alarm Output Indicator", 13 CS0_C3A (io) "Input Clock Select/CKINn Active Clock Indicator", 16 XA (in) "External Crystal or Reference Clock", 17 XB (in) "External Crystal or Reference Clock", 21 FS_ALIGN (in) "FSYNC Alignment Control", 29 CKIN4+ (in) "Clock Input 4.", 30 CKIN4- (in) "Clock Input 4.", 32 RATE0 (in) "External Crystal or Reference Clock Rate.", 34 CKIN2+ (in) "Clock Input 2.", 35 CKIN2- (in) "Clock Input 2.", 39 CKIN3+ (in) "Clock Input 3.", 40 CKIN3- (in) "Clock Input 3.", 42 RATE1 (in) "External Crystal or Reference Clock Rate.", 44 CKIN1+ (in) "Clock Input 1.", 45 CKIN1- (in) "Clock Input 1.", 49 LOL (hiz) "PLL Loss of Lock Indicator.", 54 DEC (in) "Coarse Skew Decrement.", 55 INC (in) "Coarse Skew Increment.", 57 CS1_C4A (io) "Input Clock Select/CKINn Active Clock Indicator", 58 C1A (hiz) "CKIN1 Active Clock Indicator", 59 C2A (hiz) "CKIN2 Active Clock Indicator.", 60 SCL (in) "Serial Clock.", 61 SDA_SDO (io) "Serial Data.", 68 A0 (in) "Serial Port Address.", 69 A1 (in) "Serial Port Address.", 70 A2_~{SS} (in) "Serial Port Address/S\l\a\v\e\ \S\e\l\e\c\t\", 71 SDI (in) "Serial Data In.", 77 CKOUT3+ (out) "Clock Output 3.", 78 CKOUT3- (out) "Clock Output 3.", 82 CKOUT1- (out) "Clock Output 1.", 83 CKOUT1+ (out) "Clock Output 1.", 87 FS_OUT- (out) "Frame Sync Output.", 88 FS_OUT+ (out) "Frame Sync Output.", 90 CMODE (in) "Control Mode", 92 CKOUT2+ (out) "Clock Output 2.", 93 CKOUT2- (out) "Clock Output 2.", 97 CKOUT4- (out) "Clock Output 4.", 98 CKOUT4+ (out) "Clock Output 4."
part B pins: 5 VDD (power), 6 VDD (power), 7 GND (power) "Ground.", 8 GND (power) "Ground.", 14 GND (power) "Ground.", 15 VDD (power), 18 GND (power) "Ground.", 19 GND (power) "Ground.", 26 GND (power) "Ground.", 27 VDD (power), 28 GND (power) "Ground.", 31 GND (power) "Ground.", 33 GND (power) "Ground.", 36 GND (power) "Ground.", 38 GND (power) "Ground.", 41 GND (power) "Ground.", 43 GND (power) "Ground.", 46 GND (power) "Ground.", 62 VDD (power), 63 VDD (power), 64 GND (power) "Ground.", 65 GND (power) "Ground.", 76 VDD (power), 79 VDD (power) "VDD.", 81 VDD (power) "VDD.", 84 VDD (power) "VDD.", 86 VDD (power), 89 VDD (power) "VDD.", 91 VDD (power), 94 VDD (power) "VDD.", 96 VDD (power) "VDD.", 99 VDD (power) "VDD.", 100 VDD (power) "VDD.", 101 GND (power) "Ground Pad"
part C pins: 1 NC "No Connect", 2 NC "No Connect", 4 NC "No Connect", 20 NC "No Connect", 22 NC "No Connect.", 23 NC "No Connect.", 24 NC "No Connect.", 25 NC "No Connect.", 37 NC "No Connect.", 47 NC "No Connect.", 48 NC "No Connect.", 50 NC "No Connect.", 51 NC "No Connect.", 52 NC "No Connect.", 53 NC "No Connect.", 56 NC "No Connect.", 66 NC "No Connect.", 67 NC "No Connect.", 72 NC "No Connect.", 73 NC "No Connect.", 74 NC "No Connect.", 75 NC "No Connect.", 80 NC "No Connect.", 85 NC "No Connect.", 95 NC "No Connect."

## Si5368B-C-GQ
designator U?
Any-Frequency Precision Clock Multiplier / Jitter Attenuator, 1.8 / 2.5 / 3.3 V, 0.002 to 808 MHz Output, -40 to 85 degC, 100-pin QFP; Manufacturer: Silicon Labs; PartNumber: Si5368B-C-GQ; Output Format: LVPECL; LVDS; CML; LVCMOS; Reference Inputs: 4; VDD: 1.8 V; 2.5 V; 3.3 V; Sub-Family: Clock Generators; DatasheetVersion: Rev. 1.0; PackageReference: TQFP-100; PackageDescription: 100-Pin Thin Quad Flat Package, Body 14 x 14 mm, Pitch 0.5 mm; Supplier 1: Digi-Key; Supplier Part Number 1: SI5368B-C-GQ-ND; Supplier 2: Mouser; Supplier Part Number 2: 634-SI5368B-C-GQ; Output Frequency (MHz): 0.002 to 808; Mounting Technology: Surface Mount; Code_JEDEC: MS-026; Code_IPC: J-STD-020C; ComponentLink1Description: Manufacturer URL; ComponentLink1URL: http://www.silabs.com/; ComponentLink2Description: Datasheet; ComponentLink2URL: http://www.silabs.com/Support%20Documents/TechnicalDocs/Si5368.pdf; ComponentLink3Description: Package Specification; ComponentLink3URL: https://www.silabs.com/Support%20Documents/TechnicalDocs/Si5365.pdf
footprint SLAB-TQFP-100-EP_N (QFP, 100-Leads, Body 14x14mm, Pitch 14mm, Thermal Pad 4x4mm, IPC Medium Density)
footprint SLAB-TQFP-100-EP_L (QFP, 100-Leads, Body 14x14mm, Pitch 0.5mm, Thermal Pad 4x4mm, IPC High Density)
footprint SLAB-TQFP-100-EP_M (QFP, 100-Leads, Body 14x14mm, Pitch 0.5mm, Thermal Pad 4x4mm, IPC Low Density)
part A pins: 3 ~{RST} (in) "External Reset", 9 C1B (hiz) "CKIN1 Invalid Indicator", 10 C2B (hiz) "CKIN2 Invalid Indicator.", 11 C3B (hiz) "CKIN3 Invalid Indicator.", 12 INT_ALM (hiz) "Interrupt/Alarm Output Indicator", 13 CS0_C3A (io) "Input Clock Select/CKINn Active Clock Indicator", 16 XA (in) "External Crystal or Reference Clock", 17 XB (in) "External Crystal or Reference Clock", 21 FS_ALIGN (in) "FSYNC Alignment Control", 29 CKIN4+ (in) "Clock Input 4.", 30 CKIN4- (in) "Clock Input 4.", 32 RATE0 (in) "External Crystal or Reference Clock Rate.", 34 CKIN2+ (in) "Clock Input 2.", 35 CKIN2- (in) "Clock Input 2.", 39 CKIN3+ (in) "Clock Input 3.", 40 CKIN3- (in) "Clock Input 3.", 42 RATE1 (in) "External Crystal or Reference Clock Rate.", 44 CKIN1+ (in) "Clock Input 1.", 45 CKIN1- (in) "Clock Input 1.", 49 LOL (hiz) "PLL Loss of Lock Indicator.", 54 DEC (in) "Coarse Skew Decrement.", 55 INC (in) "Coarse Skew Increment.", 57 CS1_C4A (io) "Input Clock Select/CKINn Active Clock Indicator", 58 C1A (hiz) "CKIN1 Active Clock Indicator", 59 C2A (hiz) "CKIN2 Active Clock Indicator.", 60 SCL (in) "Serial Clock.", 61 SDA_SDO (io) "Serial Data.", 68 A0 (in) "Serial Port Address.", 69 A1 (in) "Serial Port Address.", 70 A2_~{SS} (in) "Serial Port Address/S\l\a\v\e\ \S\e\l\e\c\t\", 71 SDI (in) "Serial Data In.", 77 CKOUT3+ (out) "Clock Output 3.", 78 CKOUT3- (out) "Clock Output 3.", 82 CKOUT1- (out) "Clock Output 1.", 83 CKOUT1+ (out) "Clock Output 1.", 87 FS_OUT- (out) "Frame Sync Output.", 88 FS_OUT+ (out) "Frame Sync Output.", 90 CMODE (in) "Control Mode", 92 CKOUT2+ (out) "Clock Output 2.", 93 CKOUT2- (out) "Clock Output 2.", 97 CKOUT4- (out) "Clock Output 4.", 98 CKOUT4+ (out) "Clock Output 4."
part B pins: 5 VDD (power), 6 VDD (power), 7 GND (power) "Ground.", 8 GND (power) "Ground.", 14 GND (power) "Ground.", 15 VDD (power), 18 GND (power) "Ground.", 19 GND (power) "Ground.", 26 GND (power) "Ground.", 27 VDD (power), 28 GND (power) "Ground.", 31 GND (power) "Ground.", 33 GND (power) "Ground.", 36 GND (power) "Ground.", 38 GND (power) "Ground.", 41 GND (power) "Ground.", 43 GND (power) "Ground.", 46 GND (power) "Ground.", 62 VDD (power), 63 VDD (power), 64 GND (power) "Ground.", 65 GND (power) "Ground.", 76 VDD (power), 79 VDD (power) "VDD.", 81 VDD (power) "VDD.", 84 VDD (power) "VDD.", 86 VDD (power), 89 VDD (power) "VDD.", 91 VDD (power), 94 VDD (power) "VDD.", 96 VDD (power) "VDD.", 99 VDD (power) "VDD.", 100 VDD (power) "VDD.", 101 GND (power) "Ground Pad"
part C pins: 1 NC "No Connect", 2 NC "No Connect", 4 NC "No Connect", 20 NC "No Connect", 22 NC "No Connect.", 23 NC "No Connect.", 24 NC "No Connect.", 25 NC "No Connect.", 37 NC "No Connect.", 47 NC "No Connect.", 48 NC "No Connect.", 50 NC "No Connect.", 51 NC "No Connect.", 52 NC "No Connect.", 53 NC "No Connect.", 56 NC "No Connect.", 66 NC "No Connect.", 67 NC "No Connect.", 72 NC "No Connect.", 73 NC "No Connect.", 74 NC "No Connect.", 75 NC "No Connect.", 80 NC "No Connect.", 85 NC "No Connect.", 95 NC "No Connect."

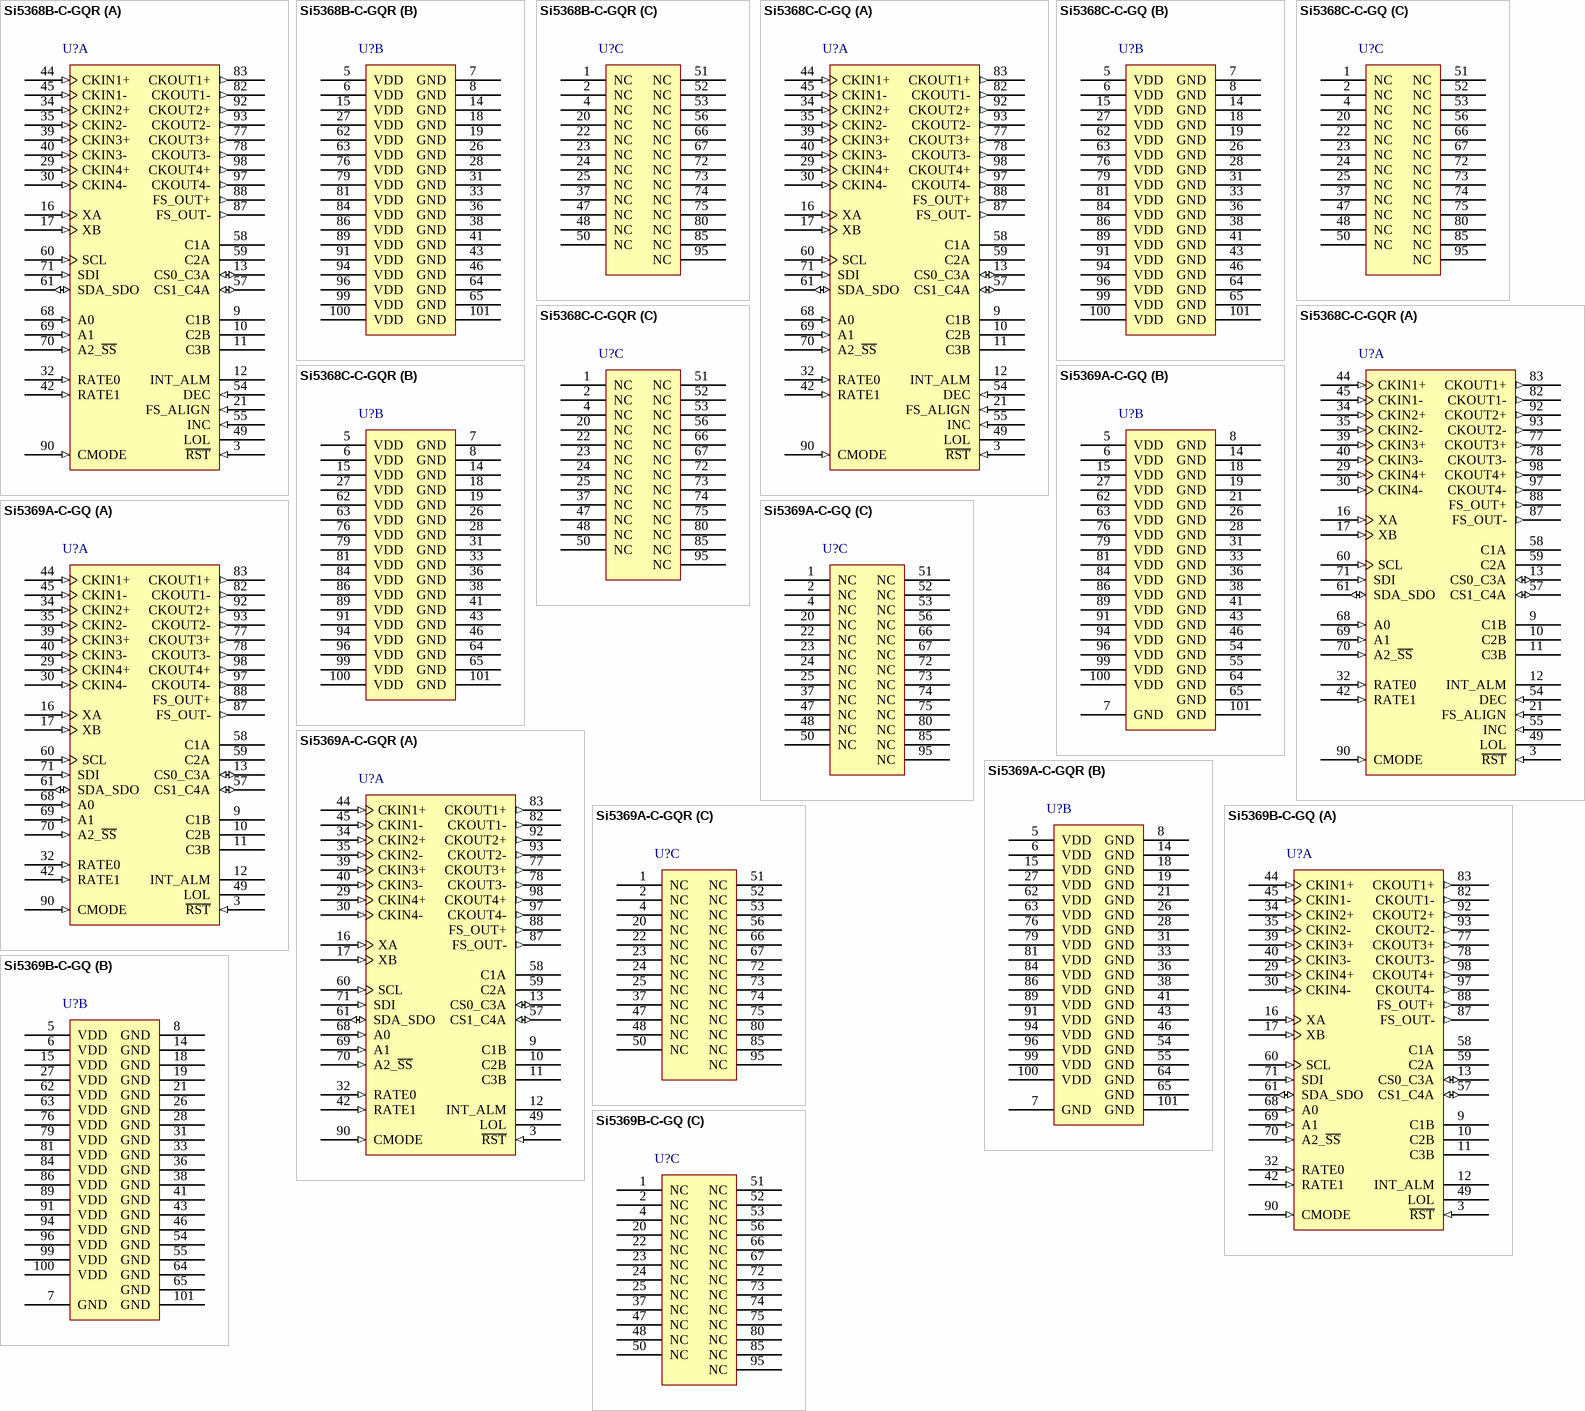
[diagram p29: symbols Si5368B-C-GQR to Si5369B-C-GQ]

## Si5368B-C-GQR
designator U?
Any-Frequency Precision Clock Multiplier / Jitter Attenuator, 1.8 / 2.5 / 3.3 V, 0.002 to 808 MHz Output, -40 to 85 degC, 100-pin QFP, Tape and Reel; Manufacturer: Silicon Labs; PartNumber: Si5368B-C-GQR; Output Format: LVPECL; LVDS; CML; LVCMOS; Phase Jitter (RMS): 0.3 ps; Reference Inputs: 4; VDD: 1.8 V; 2.5 V; 3.3 V; Sub-Family: Clock Generators; DatasheetVersion: Rev. 1.0; PackageReference: TQFP-100; PackageDescription: 100-Pin Thin Quad Flat Package, Body 14 x 14 mm, Pitch 0.5 mm; Supplier 1: Digi-Key; Supplier Part Number 1: SI5368B-C-GQR-ND; Supplier 2: Mouser; Supplier Part Number 2: 634-SI5368B-C-GQR; Output Frequency (MHz): 0.002 to 808; Packing: Tape and Reel; Mounting Technology: Surface Mount; Code_JEDEC: MS-026; Code_IPC: J-STD-020C; ComponentLink1Description: Manufacturer URL; ComponentLink1URL: http://www.silabs.com/; ComponentLink2Description: Datasheet; ComponentLink2URL: http://www.silabs.com/Support%20Documents/TechnicalDocs/Si5368.pdf; ComponentLink3Description: Package Specification; ComponentLink3URL: https://www.silabs.com/Support%20Documents/TechnicalDocs/Si5365.pdf
footprint SLAB-TQFP-100-EP_N (QFP, 100-Leads, Body 14x14mm, Pitch 14mm, Thermal Pad 4x4mm, IPC Medium Density)
footprint SLAB-TQFP-100-EP_L (QFP, 100-Leads, Body 14x14mm, Pitch 0.5mm, Thermal Pad 4x4mm, IPC High Density)
footprint SLAB-TQFP-100-EP_M (QFP, 100-Leads, Body 14x14mm, Pitch 0.5mm, Thermal Pad 4x4mm, IPC Low Density)
part A pins: 3 ~{RST} (in) "External Reset", 9 C1B (hiz) "CKIN1 Invalid Indicator", 10 C2B (hiz) "CKIN2 Invalid Indicator.", 11 C3B (hiz) "CKIN3 Invalid Indicator.", 12 INT_ALM (hiz) "Interrupt/Alarm Output Indicator", 13 CS0_C3A (io) "Input Clock Select/CKINn Active Clock Indicator", 16 XA (in) "External Crystal or Reference Clock", 17 XB (in) "External Crystal or Reference Clock", 21 FS_ALIGN (in) "FSYNC Alignment Control", 29 CKIN4+ (in) "Clock Input 4.", 30 CKIN4- (in) "Clock Input 4.", 32 RATE0 (in) "External Crystal or Reference Clock Rate.", 34 CKIN2+ (in) "Clock Input 2.", 35 CKIN2- (in) "Clock Input 2.", 39 CKIN3+ (in) "Clock Input 3.", 40 CKIN3- (in) "Clock Input 3.", 42 RATE1 (in) "External Crystal or Reference Clock Rate.", 44 CKIN1+ (in) "Clock Input 1.", 45 CKIN1- (in) "Clock Input 1.", 49 LOL (hiz) "PLL Loss of Lock Indicator.", 54 DEC (in) "Coarse Skew Decrement.", 55 INC (in) "Coarse Skew Increment.", 57 CS1_C4A (io) "Input Clock Select/CKINn Active Clock Indicator", 58 C1A (hiz) "CKIN1 Active Clock Indicator", 59 C2A (hiz) "CKIN2 Active Clock Indicator.", 60 SCL (in) "Serial Clock.", 61 SDA_SDO (io) "Serial Data.", 68 A0 (in) "Serial Port Address.", 69 A1 (in) "Serial Port Address.", 70 A2_~{SS} (in) "Serial Port Address/S\l\a\v\e\ \S\e\l\e\c\t\", 71 SDI (in) "Serial Data In.", 77 CKOUT3+ (out) "Clock Output 3.", 78 CKOUT3- (out) "Clock Output 3.", 82 CKOUT1- (out) "Clock Output 1.", 83 CKOUT1+ (out) "Clock Output 1.", 87 FS_OUT- (out) "Frame Sync Output.", 88 FS_OUT+ (out) "Frame Sync Output.", 90 CMODE (in) "Control Mode", 92 CKOUT2+ (out) "Clock Output 2.", 93 CKOUT2- (out) "Clock Output 2.", 97 CKOUT4- (out) "Clock Output 4.", 98 CKOUT4+ (out) "Clock Output 4."
part B pins: 5 VDD (power), 6 VDD (power), 7 GND (power) "Ground.", 8 GND (power) "Ground.", 14 GND (power) "Ground.", 15 VDD (power), 18 GND (power) "Ground.", 19 GND (power) "Ground.", 26 GND (power) "Ground.", 27 VDD (power), 28 GND (power) "Ground.", 31 GND (power) "Ground.", 33 GND (power) "Ground.", 36 GND (power) "Ground.", 38 GND (power) "Ground.", 41 GND (power) "Ground.", 43 GND (power) "Ground.", 46 GND (power) "Ground.", 62 VDD (power), 63 VDD (power), 64 GND (power) "Ground.", 65 GND (power) "Ground.", 76 VDD (power), 79 VDD (power) "VDD.", 81 VDD (power) "VDD.", 84 VDD (power) "VDD.", 86 VDD (power), 89 VDD (power) "VDD.", 91 VDD (power), 94 VDD (power) "VDD.", 96 VDD (power) "VDD.", 99 VDD (power) "VDD.", 100 VDD (power) "VDD.", 101 GND (power) "Ground Pad"
part C pins: 1 NC "No Connect", 2 NC "No Connect", 4 NC "No Connect", 20 NC "No Connect", 22 NC "No Connect.", 23 NC "No Connect.", 24 NC "No Connect.", 25 NC "No Connect.", 37 NC "No Connect.", 47 NC "No Connect.", 48 NC "No Connect.", 50 NC "No Connect.", 51 NC "No Connect.", 52 NC "No Connect.", 53 NC "No Connect.", 56 NC "No Connect.", 66 NC "No Connect.", 67 NC "No Connect.", 72 NC "No Connect.", 73 NC "No Connect.", 74 NC "No Connect.", 75 NC "No Connect.", 80 NC "No Connect.", 85 NC "No Connect.", 95 NC "No Connect."

## Si5368C-C-GQ
designator U?
Any-Frequency Precision Clock Multiplier / Jitter Attenuator, 1.8 / 2.5 / 3.3 V, 0.002 to 346 MHz Output, -40 to 85 degC, 100-pin QFP; Manufacturer: Silicon Labs; PartNumber: Si5368C-C-GQ; Output Format: LVPECL; LVDS; CML; LVCMOS; Reference Inputs: 4; VDD: 1.8 V; 2.5 V; 3.3 V; Sub-Family: Clock Generators; DatasheetVersion: Rev. 1.0; PackageReference: TQFP-100; PackageDescription: 100-Pin Thin Quad Flat Package, Body 14 x 14 mm, Pitch 0.5 mm; Supplier 1: Digi-Key; Supplier Part Number 1: SI5368C-C-GQ-ND; Supplier 2: Mouser; Supplier Part Number 2: 634-SI5368C-C-GQ; Output Frequency (MHz): 0.002 to 346; Mounting Technology: Surface Mount; Code_JEDEC: MS-026; Code_IPC: J-STD-020C; ComponentLink1Description: Manufacturer URL; ComponentLink1URL: http://www.silabs.com/; ComponentLink2Description: Datasheet; ComponentLink2URL: http://www.silabs.com/Support%20Documents/TechnicalDocs/Si5368.pdf; ComponentLink3Description: Package Specification; ComponentLink3URL: https://www.silabs.com/Support%20Documents/TechnicalDocs/Si5365.pdf
footprint SLAB-TQFP-100-EP_N (QFP, 100-Leads, Body 14x14mm, Pitch 14mm, Thermal Pad 4x4mm, IPC Medium Density)
footprint SLAB-TQFP-100-EP_L (QFP, 100-Leads, Body 14x14mm, Pitch 0.5mm, Thermal Pad 4x4mm, IPC High Density)
footprint SLAB-TQFP-100-EP_M (QFP, 100-Leads, Body 14x14mm, Pitch 0.5mm, Thermal Pad 4x4mm, IPC Low Density)
part A pins: 3 ~{RST} (in) "External Reset", 9 C1B (hiz) "CKIN1 Invalid Indicator", 10 C2B (hiz) "CKIN2 Invalid Indicator.", 11 C3B (hiz) "CKIN3 Invalid Indicator.", 12 INT_ALM (hiz) "Interrupt/Alarm Output Indicator", 13 CS0_C3A (io) "Input Clock Select/CKINn Active Clock Indicator", 16 XA (in) "External Crystal or Reference Clock", 17 XB (in) "External Crystal or Reference Clock", 21 FS_ALIGN (in) "FSYNC Alignment Control", 29 CKIN4+ (in) "Clock Input 4.", 30 CKIN4- (in) "Clock Input 4.", 32 RATE0 (in) "External Crystal or Reference Clock Rate.", 34 CKIN2+ (in) "Clock Input 2.", 35 CKIN2- (in) "Clock Input 2.", 39 CKIN3+ (in) "Clock Input 3.", 40 CKIN3- (in) "Clock Input 3.", 42 RATE1 (in) "External Crystal or Reference Clock Rate.", 44 CKIN1+ (in) "Clock Input 1.", 45 CKIN1- (in) "Clock Input 1.", 49 LOL (hiz) "PLL Loss of Lock Indicator.", 54 DEC (in) "Coarse Skew Decrement.", 55 INC (in) "Coarse Skew Increment.", 57 CS1_C4A (io) "Input Clock Select/CKINn Active Clock Indicator", 58 C1A (hiz) "CKIN1 Active Clock Indicator", 59 C2A (hiz) "CKIN2 Active Clock Indicator.", 60 SCL (in) "Serial Clock.", 61 SDA_SDO (io) "Serial Data.", 68 A0 (in) "Serial Port Address.", 69 A1 (in) "Serial Port Address.", 70 A2_~{SS} (in) "Serial Port Address/S\l\a\v\e\ \S\e\l\e\c\t\", 71 SDI (in) "Serial Data In.", 77 CKOUT3+ (out) "Clock Output 3.", 78 CKOUT3- (out) "Clock Output 3.", 82 CKOUT1- (out) "Clock Output 1.", 83 CKOUT1+ (out) "Clock Output 1.", 87 FS_OUT- (out) "Frame Sync Output.", 88 FS_OUT+ (out) "Frame Sync Output.", 90 CMODE (in) "Control Mode", 92 CKOUT2+ (out) "Clock Output 2.", 93 CKOUT2- (out) "Clock Output 2.", 97 CKOUT4- (out) "Clock Output 4.", 98 CKOUT4+ (out) "Clock Output 4."
part B pins: 5 VDD (power), 6 VDD (power), 7 GND (power) "Ground.", 8 GND (power) "Ground.", 14 GND (power) "Ground.", 15 VDD (power), 18 GND (power) "Ground.", 19 GND (power) "Ground.", 26 GND (power) "Ground.", 27 VDD (power), 28 GND (power) "Ground.", 31 GND (power) "Ground.", 33 GND (power) "Ground.", 36 GND (power) "Ground.", 38 GND (power) "Ground.", 41 GND (power) "Ground.", 43 GND (power) "Ground.", 46 GND (power) "Ground.", 62 VDD (power), 63 VDD (power), 64 GND (power) "Ground.", 65 GND (power) "Ground.", 76 VDD (power), 79 VDD (power) "VDD.", 81 VDD (power) "VDD.", 84 VDD (power) "VDD.", 86 VDD (power), 89 VDD (power) "VDD.", 91 VDD (power), 94 VDD (power) "VDD.", 96 VDD (power) "VDD.", 99 VDD (power) "VDD.", 100 VDD (power) "VDD.", 101 GND (power) "Ground Pad"
part C pins: 1 NC "No Connect", 2 NC "No Connect", 4 NC "No Connect", 20 NC "No Connect", 22 NC "No Connect.", 23 NC "No Connect.", 24 NC "No Connect.", 25 NC "No Connect.", 37 NC "No Connect.", 47 NC "No Connect.", 48 NC "No Connect.", 50 NC "No Connect.", 51 NC "No Connect.", 52 NC "No Connect.", 53 NC "No Connect.", 56 NC "No Connect.", 66 NC "No Connect.", 67 NC "No Connect.", 72 NC "No Connect.", 73 NC "No Connect.", 74 NC "No Connect.", 75 NC "No Connect.", 80 NC "No Connect.", 85 NC "No Connect.", 95 NC "No Connect."

## Si5368C-C-GQR
designator U?
Any-Frequency Precision Clock Multiplier / Jitter Attenuator, 1.8 / 2.5 / 3.3 V, 0.002 to 346 MHz Output, -40 to 85 degC, 100-pin QFP, Tape and Reel; Manufacturer: Silicon Labs; PartNumber: Si5368C-C-GQR; Output Format: LVPECL; LVDS; CML; LVCMOS; Phase Jitter (RMS): 0.3 ps; Reference Inputs: 4; VDD: 1.8 V; 2.5 V; 3.3 V; Sub-Family: Clock Generators; DatasheetVersion: Rev. 1.0; PackageReference: TQFP-100; PackageDescription: 100-Pin Thin Quad Flat Package, Body 14 x 14 mm, Pitch 0.5 mm; Supplier 1: Digi-Key; Supplier Part Number 1: SI5368C-C-GQR-ND; Supplier 2: Mouser; Supplier Part Number 2: 634-SI5368C-C-GQR; Output Frequency (MHz): 0.002 to 346; Packing: Tape and Reel; Mounting Technology: Surface Mount; Code_JEDEC: MS-026; Code_IPC: J-STD-020C; ComponentLink1Description: Manufacturer URL; ComponentLink1URL: http://www.silabs.com/; ComponentLink2Description: Datasheet; ComponentLink2URL: http://www.silabs.com/Support%20Documents/TechnicalDocs/Si5368.pdf; ComponentLink3Description: Package Specification; ComponentLink3URL: https://www.silabs.com/Support%20Documents/TechnicalDocs/Si5365.pdf
footprint SLAB-TQFP-100-EP_N (QFP, 100-Leads, Body 14x14mm, Pitch 14mm, Thermal Pad 4x4mm, IPC Medium Density)
footprint SLAB-TQFP-100-EP_L (QFP, 100-Leads, Body 14x14mm, Pitch 0.5mm, Thermal Pad 4x4mm, IPC High Density)
footprint SLAB-TQFP-100-EP_M (QFP, 100-Leads, Body 14x14mm, Pitch 0.5mm, Thermal Pad 4x4mm, IPC Low Density)
part A pins: 3 ~{RST} (in) "External Reset", 9 C1B (hiz) "CKIN1 Invalid Indicator", 10 C2B (hiz) "CKIN2 Invalid Indicator.", 11 C3B (hiz) "CKIN3 Invalid Indicator.", 12 INT_ALM (hiz) "Interrupt/Alarm Output Indicator", 13 CS0_C3A (io) "Input Clock Select/CKINn Active Clock Indicator", 16 XA (in) "External Crystal or Reference Clock", 17 XB (in) "External Crystal or Reference Clock", 21 FS_ALIGN (in) "FSYNC Alignment Control", 29 CKIN4+ (in) "Clock Input 4.", 30 CKIN4- (in) "Clock Input 4.", 32 RATE0 (in) "External Crystal or Reference Clock Rate.", 34 CKIN2+ (in) "Clock Input 2.", 35 CKIN2- (in) "Clock Input 2.", 39 CKIN3+ (in) "Clock Input 3.", 40 CKIN3- (in) "Clock Input 3.", 42 RATE1 (in) "External Crystal or Reference Clock Rate.", 44 CKIN1+ (in) "Clock Input 1.", 45 CKIN1- (in) "Clock Input 1.", 49 LOL (hiz) "PLL Loss of Lock Indicator.", 54 DEC (in) "Coarse Skew Decrement.", 55 INC (in) "Coarse Skew Increment.", 57 CS1_C4A (io) "Input Clock Select/CKINn Active Clock Indicator", 58 C1A (hiz) "CKIN1 Active Clock Indicator", 59 C2A (hiz) "CKIN2 Active Clock Indicator.", 60 SCL (in) "Serial Clock.", 61 SDA_SDO (io) "Serial Data.", 68 A0 (in) "Serial Port Address.", 69 A1 (in) "Serial Port Address.", 70 A2_~{SS} (in) "Serial Port Address/S\l\a\v\e\ \S\e\l\e\c\t\", 71 SDI (in) "Serial Data In.", 77 CKOUT3+ (out) "Clock Output 3.", 78 CKOUT3- (out) "Clock Output 3.", 82 CKOUT1- (out) "Clock Output 1.", 83 CKOUT1+ (out) "Clock Output 1.", 87 FS_OUT- (out) "Frame Sync Output.", 88 FS_OUT+ (out) "Frame Sync Output.", 90 CMODE (in) "Control Mode", 92 CKOUT2+ (out) "Clock Output 2.", 93 CKOUT2- (out) "Clock Output 2.", 97 CKOUT4- (out) "Clock Output 4.", 98 CKOUT4+ (out) "Clock Output 4."
part B pins: 5 VDD (power), 6 VDD (power), 7 GND (power) "Ground.", 8 GND (power) "Ground.", 14 GND (power) "Ground.", 15 VDD (power), 18 GND (power) "Ground.", 19 GND (power) "Ground.", 26 GND (power) "Ground.", 27 VDD (power), 28 GND (power) "Ground.", 31 GND (power) "Ground.", 33 GND (power) "Ground.", 36 GND (power) "Ground.", 38 GND (power) "Ground.", 41 GND (power) "Ground.", 43 GND (power) "Ground.", 46 GND (power) "Ground.", 62 VDD (power), 63 VDD (power), 64 GND (power) "Ground.", 65 GND (power) "Ground.", 76 VDD (power), 79 VDD (power) "VDD.", 81 VDD (power) "VDD.", 84 VDD (power) "VDD.", 86 VDD (power), 89 VDD (power) "VDD.", 91 VDD (power), 94 VDD (power) "VDD.", 96 VDD (power) "VDD.", 99 VDD (power) "VDD.", 100 VDD (power) "VDD.", 101 GND (power) "Ground Pad"
part C pins: 1 NC "No Connect", 2 NC "No Connect", 4 NC "No Connect", 20 NC "No Connect", 22 NC "No Connect.", 23 NC "No Connect.", 24 NC "No Connect.", 25 NC "No Connect.", 37 NC "No Connect.", 47 NC "No Connect.", 48 NC "No Connect.", 50 NC "No Connect.", 51 NC "No Connect.", 52 NC "No Connect.", 53 NC "No Connect.", 56 NC "No Connect.", 66 NC "No Connect.", 67 NC "No Connect.", 72 NC "No Connect.", 73 NC "No Connect.", 74 NC "No Connect.", 75 NC "No Connect.", 80 NC "No Connect.", 85 NC "No Connect.", 95 NC "No Connect."